# EAGLE library part LTC2945 (library linear-technology)
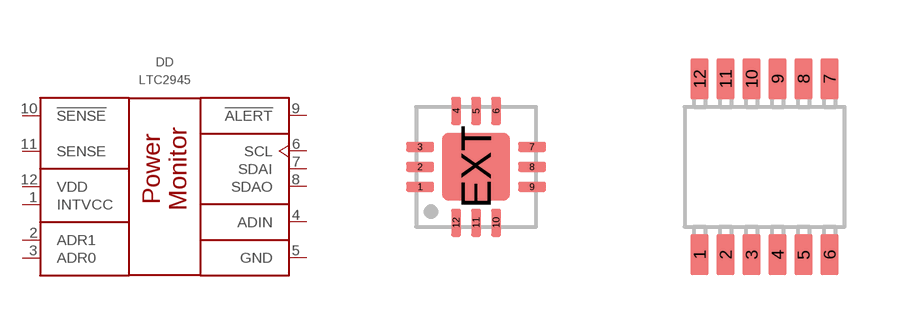
[diagram p5: symbol with the pads of QFN12; footprints QFN12, MSOP12]

Designator prefix DD

## LTC2945CUD#TRPBF  [QFN12]
1  INTVCC  in
2  ADR1  in
3  ADR0  in
4  ADIN  in
5  GND  pwr
6  SCL  in
7  SDAI  in
8  SDAO  out
9  !ALERT  out
10  !SENSE  in
11  SENSE  in
12  VDD  pwr

## LTC2945IUD#TRPBF  [QFN12]
Pads as for QFN12

## LTC2945HUD#TRPBF  [QFN12]
Pads as for QFN12

## LTC2945CUD-1#TRPBF  [QFN12]
Pads as for QFN12

## LTC2945IUD-1#TRPBF  [QFN12]
Pads as for QFN12

## LTC2945HUD-1#PBF  [QFN12]
Pads as for QFN12

## LTC2945CMS#PBF  [MSOP12]
1  VDD  pwr
2  INTVCC  in
3  ADR1  in
4  ADR0  in
5  ADIN  in
6  GND  pwr
7  SCL  in
8  SDAI  in
9  SDAO  out
10  !ALERT  out
11  !SENSE  in
12  SENSE  in

## LTC2945IMS#PBF  [MSOP12]
Pads as for MSOP12

## LTC2945HMS#PBF  [MSOP12]
Pads as for MSOP12

## LTC2945CMS-1#PBF  [MSOP12]
Pads as for MSOP12

## LTC2945IMS-1#PBF  [MSOP12]
Pads as for MSOP12

## LTC2945HMS-1#PBF  [MSOP12]
Pads as for MSOP12

## Footprint QFN12 (pad centres in mm)
smd 0.7 x 0.25: 1 -1.4,-0.5; 2 -1.4,0; 3 -1.4,0.5; 7 1.4,0.5; 8 1.4,0; 9 1.4,-0.5
smd 0.25 x 0.7: 4 -0.5,1.4; 5 0,1.4; 6 0.5,1.4; 10 0.5,-1.4; 11 0,-1.4; 12 -0.5,-1.4
smd 1.7 x 1.7: EXT 0,0

## Footprint MSOP12 (pad centres in mm)
smd 0.45 x 1: 1 -1.625,-2.205; 2 -0.975,-2.205; 3 -0.325,-2.205; 4 0.325,-2.205; 5 0.975,-2.205; 6 1.625,-2.205; 7 1.625,2.195; 8 0.975,2.195; 9 0.325,2.195; 10 -0.325,2.195; 11 -0.975,2.195; 12 -1.625,2.195